# Altium integrated library Capacitor - Ceramic - Sumsung.IntLib: 1421 symbols (part 16 of 22)
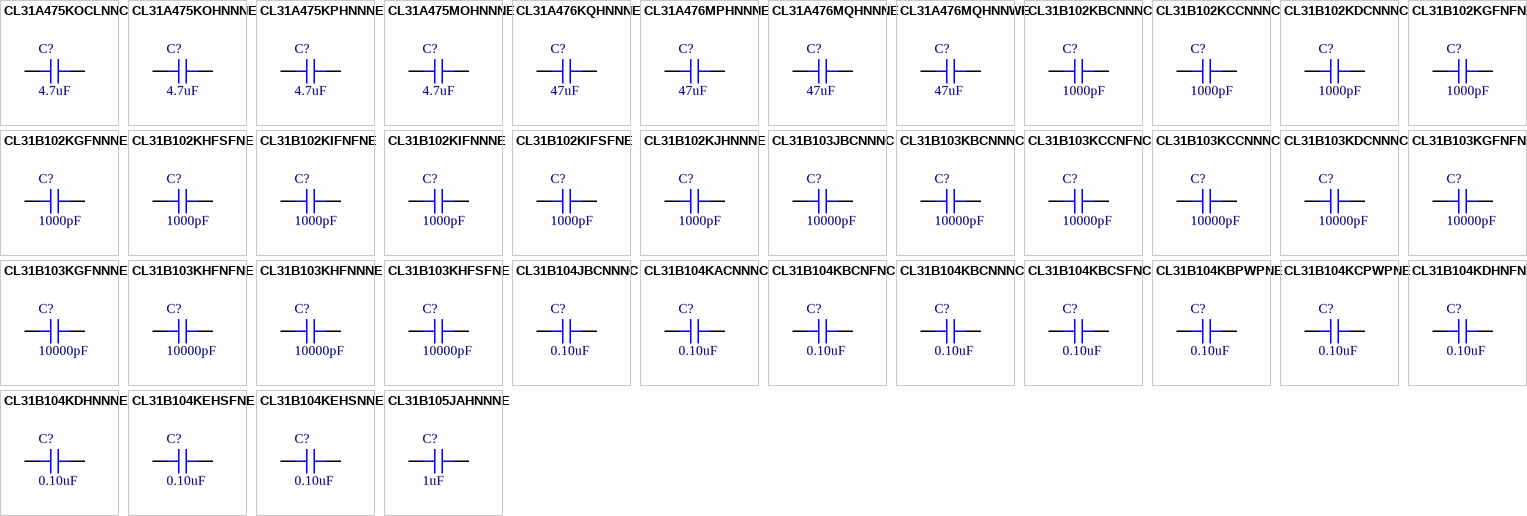
[diagram p50: symbols CL31A475KOCLNNC to CL31B105JAHNNNE]

## CL31A476MQHNNWE
designator C?, comment 47uF
CAP CER 47UF 6.3V X5R 1206; Part Number: CL31A476MQHNNWE; Manufacturer: Samsung Electro-Mechanics America, Inc.; TemperatureRange: -55C ~ 85C; Tolerance: 20%; Value: 47uF; PartId: 15984; Supplier 1: Digi-Key; Supplier Part Number 1: 1276-3064-2-ND; ComponentLink1Description: Datasheet; ComponentLink1URL: //media.digikey.com/pdf/Data%20Sheets/Samsung%20PDFs/CL31A476MQHNNWE_Spec.pdf; ComponentLink2Description: Digi-Key Listing; ComponentLink2URL: https://www.digikey.com/product-detail/en/samsung-electro-mechanics-america-inc/CL31A476MQHNNWE/1276-3064-2-ND/3888722; TemperatureCoefficient: X5R; Voltage: 6.3V; Price: 0.1643; Device Package: 1206 (3216 Metric)
footprint CAP 1206/3216
pins: 1, 2

## CL31B102KBCNNNC
designator C?, comment 1000pF
CAP CER 1000PF 50V X7R 1206; Part Number: CL31B102KBCNNNC; Manufacturer: Samsung Electro-Mechanics America, Inc.; TemperatureRange: -55C ~ 125C; Tolerance: 10%; Value: 1000pF; PartId: 16960; Supplier 1: Digi-Key; Supplier Part Number 1: 1276-1050-2-ND; ComponentLink1Description: Datasheet; ComponentLink1URL: http://www.samsungsem.com/kr/support/product-search/mlcc/__icsFiles/afieldfile/2016/08/18/S_CL31B102KBCNNNC.pdf; ComponentLink2Description: Digi-Key Listing; ComponentLink2URL: https://www.digikey.com/product-detail/en/samsung-electro-mechanics-america-inc/CL31B102KBCNNNC/1276-1050-2-ND/3886708; TemperatureCoefficient: X7R; Voltage: 50V; Price: 0.0293; Device Package: 1206 (3216 Metric)
footprint CAP 1206/3216 - 1.0MM
pins: 1, 2

## CL31B102KCCNNNC
designator C?, comment 1000pF
CAP CER 1000PF 100V X7R 1206; Part Number: CL31B102KCCNNNC; Manufacturer: Samsung Electro-Mechanics America, Inc.; TemperatureRange: -55C ~ 125C; Tolerance: 10%; Value: 1000pF; PartId: 17002; Supplier 1: Digi-Key; Supplier Part Number 1: 1276-1772-2-ND; ComponentLink1Description: Datasheet; ComponentLink1URL: http://www.samsungsem.com/kr/support/product-search/mlcc/__icsFiles/afieldfile/2016/08/18/S_CL31B102KCCNNNC.pdf; ComponentLink2Description: Digi-Key Listing; ComponentLink2URL: https://www.digikey.com/product-detail/en/samsung-electro-mechanics-america-inc/CL31B102KCCNNNC/1276-1772-2-ND/3887430; TemperatureCoefficient: X7R; Voltage: 100V; Price: 0.0441; Device Package: 1206 (3216 Metric)
footprint CAP 1206/3216 - 1.0MM
pins: 1, 2

## CL31B102KDCNNNC
designator C?, comment 1000pF
CAP CER 1000PF 200V X7R 1206; Part Number: CL31B102KDCNNNC; Manufacturer: Samsung Electro-Mechanics America, Inc.; TemperatureRange: -55C ~ 125C; Tolerance: 10%; Value: 1000pF; PartId: 15428; Supplier 1: Digi-Key; Supplier Part Number 1: 1276-2734-2-ND; ComponentLink1Description: Datasheet; ComponentLink1URL: //media.digikey.com/pdf/Data%20Sheets/Samsung%20PDFs/CL31B102KDCNNNC_Spec.pdf; ComponentLink2Description: Digi-Key Listing; ComponentLink2URL: https://www.digikey.com/product-detail/en/samsung-electro-mechanics-america-inc/CL31B102KDCNNNC/1276-2734-2-ND/3888392; TemperatureCoefficient: X7R; Voltage: 200V; Price: 0.0307; Device Package: 1206 (3216 Metric)
footprint CAP 1206/3216
pins: 1, 2

## CL31B102KGFNFNE
designator C?, comment 1000pF
CAP CER 1000PF 500V X7R 1206; Part Number: CL31B102KGFNFNE; Manufacturer: Samsung Electro-Mechanics America, Inc.; TemperatureRange: -55C ~ 125C; Tolerance: 10%; Value: 1000pF; PartId: 15403; Supplier 1: Digi-Key; Supplier Part Number 1: 1276-3065-2-ND; ComponentLink1Description: Datasheet; ComponentLink1URL: //media.digikey.com/pdf/Data%20Sheets/Samsung%20PDFs/CL31B102KGFNFNE_Spec.pdf; ComponentLink2Description: Digi-Key Listing; ComponentLink2URL: https://www.digikey.com/product-detail/en/samsung-electro-mechanics-america-inc/CL31B102KGFNFNE/1276-3065-2-ND/3888723; TemperatureCoefficient: X7R; Voltage: 500V; Price: 0.0336; Device Package: 1206 (3216 Metric)
footprint CAP 1206/3216
pins: 1, 2

## CL31B102KGFNNNE
designator C?, comment 1000pF
CAP CER 1000PF 500V X7R 1206; Part Number: CL31B102KGFNNNE; Manufacturer: Samsung Electro-Mechanics America, Inc.; TemperatureRange: -55C ~ 125C; Tolerance: 10%; Value: 1000pF; PartId: 15437; Supplier 1: Digi-Key; Supplier Part Number 1: 1276-3066-2-ND; ComponentLink1Description: Datasheet; ComponentLink1URL: //media.digikey.com/pdf/Data%20Sheets/Samsung%20PDFs/CL31B102KGFNNNE_Spec.pdf; ComponentLink2Description: Digi-Key Listing; ComponentLink2URL: https://www.digikey.com/product-detail/en/samsung-electro-mechanics-america-inc/CL31B102KGFNNNE/1276-3066-2-ND/3888724; TemperatureCoefficient: X7R; Voltage: 500V; Price: 0.0456; Device Package: 1206 (3216 Metric)
footprint CAP 1206/3216
pins: 1, 2

## CL31B102KHFSFNE
designator C?, comment 1000pF
CAP CER 1000PF 630V X7R 1206; Part Number: CL31B102KHFSFNE; Manufacturer: Samsung Electro-Mechanics America, Inc.; TemperatureRange: -55C ~ 125C; Tolerance: 10%; Value: 1000pF; PartId: 15508; Supplier 1: Digi-Key; Supplier Part Number 1: 1276-3069-2-ND; ComponentLink1Description: Datasheet; ComponentLink1URL: //media.digikey.com/pdf/Data%20Sheets/Samsung%20PDFs/CL31B102KHFSFNE_Spec.pdf; ComponentLink2Description: Digi-Key Listing; ComponentLink2URL: https://www.digikey.com/product-detail/en/samsung-electro-mechanics-america-inc/CL31B102KHFSFNE/1276-3069-2-ND/3888727; TemperatureCoefficient: X7R; Voltage: 630V; Price: 0.0336; Device Package: 1206 (3216 Metric)
footprint CAP 1206/3216
pins: 1, 2

## CL31B102KIFNFNE
designator C?, comment 1000pF
CAP CER 1000PF 1KV X7R 1206; Part Number: CL31B102KIFNFNE; Manufacturer: Samsung Electro-Mechanics America, Inc.; TemperatureRange: -55C ~ 125C; Tolerance: 10%; Voltage: 1000V (1kV); Value: 1000pF; PartId: 15465; Supplier 1: Digi-Key; Supplier Part Number 1: 1276-3070-2-ND; ComponentLink1Description: Datasheet; ComponentLink1URL: //media.digikey.com/pdf/Data%20Sheets/Samsung%20PDFs/CL31B102KIFNFNE_Spec.pdf; ComponentLink2Description: Digi-Key Listing; ComponentLink2URL: https://www.digikey.com/product-detail/en/samsung-electro-mechanics-america-inc/CL31B102KIFNFNE/1276-3070-2-ND/3888728; TemperatureCoefficient: X7R; Price: 0.0725; Device Package: 1206 (3216 Metric)
footprint CAP 1206/3216
pins: 1, 2

## CL31B102KIFNNNE
designator C?, comment 1000pF
CAP CER 1000PF 1KV X7R 1206; Part Number: CL31B102KIFNNNE; Manufacturer: Samsung Electro-Mechanics America, Inc.; TemperatureRange: -55C ~ 125C; Tolerance: 10%; Voltage: 1000V (1kV); Value: 1000pF; PartId: 15466; Supplier 1: Digi-Key; Supplier Part Number 1: 1276-3071-2-ND; ComponentLink1Description: Datasheet; ComponentLink1URL: //media.digikey.com/pdf/Data%20Sheets/Samsung%20PDFs/CL31B102KIFNNNE_Spec.pdf; ComponentLink2Description: Digi-Key Listing; ComponentLink2URL: https://www.digikey.com/product-detail/en/samsung-electro-mechanics-america-inc/CL31B102KIFNNNE/1276-3071-2-ND/3888729; TemperatureCoefficient: X7R; Price: 0.0725; Device Package: 1206 (3216 Metric)
footprint CAP 1206/3216
pins: 1, 2

## CL31B102KIFSFNE
designator C?, comment 1000pF
CAP CER 1000PF 1KV X7R 1206; Part Number: CL31B102KIFSFNE; Manufacturer: Samsung Electro-Mechanics America, Inc.; TemperatureRange: -55C ~ 125C; Tolerance: 10%; Voltage: 1000V (1kV); Value: 1000pF; PartId: 15502; Supplier 1: Digi-Key; Supplier Part Number 1: 1276-3072-2-ND; ComponentLink1Description: Datasheet; ComponentLink1URL: //media.digikey.com/pdf/Data%20Sheets/Samsung%20PDFs/CL31B102KIFSFNE_Spec.pdf; ComponentLink2Description: Digi-Key Listing; ComponentLink2URL: https://www.digikey.com/product-detail/en/samsung-electro-mechanics-america-inc/CL31B102KIFSFNE/1276-3072-2-ND/3888730; TemperatureCoefficient: X7R; Price: 0.0956; Device Package: 1206 (3216 Metric)
footprint CAP 1206/3216
pins: 1, 2

## CL31B102KJHNNNE
designator C?, comment 1000pF
CAP CER 1000PF 2KV X7R 1206; Part Number: CL31B102KJHNNNE; Manufacturer: Samsung Electro-Mechanics America, Inc.; TemperatureRange: -55C ~ 125C; Tolerance: 10%; Voltage: 2000V (2kV); Value: 1000pF; PartId: 15413; Supplier 1: Digi-Key; Supplier Part Number 1: 1276-3073-2-ND; ComponentLink1Description: Datasheet; ComponentLink1URL: //media.digikey.com/pdf/Data%20Sheets/Samsung%20PDFs/CL31B102KJHNNNE_Spec.pdf; ComponentLink2Description: Digi-Key Listing; ComponentLink2URL: https://www.digikey.com/product-detail/en/samsung-electro-mechanics-america-inc/CL31B102KJHNNNE/1276-3073-2-ND/3888731; TemperatureCoefficient: X7R; Price: 0.0675; Device Package: 1206 (3216 Metric)
footprint CAP 1206/3216
pins: 1, 2

## CL31B103JBCNNNC
designator C?, comment 10000pF
CAP CER 10000PF 50V X7R 1206; Part Number: CL31B103JBCNNNC; Manufacturer: Samsung Electro-Mechanics America, Inc.; TemperatureRange: -55C ~ 125C; Tolerance: 5%; Value: 10000pF; PartId: 17103; Supplier 1: Digi-Key; Supplier Part Number 1: 1276-2735-2-ND; ComponentLink1Description: Datasheet; ComponentLink1URL: http://www.samsungsem.com/kr/support/product-search/mlcc/__icsFiles/afieldfile/2016/08/18/S_CL31B103JBCNNNC.pdf; ComponentLink2Description: Digi-Key Listing; ComponentLink2URL: https://www.digikey.com/product-detail/en/samsung-electro-mechanics-america-inc/CL31B103JBCNNNC/1276-2735-2-ND/3888393; TemperatureCoefficient: X7R; Voltage: 50V; Price: 0.0451; Device Package: 1206 (3216 Metric)
footprint CAP 1206/3216 - 1.0MM
pins: 1, 2

## CL31B103KBCNNNC
designator C?, comment 10000pF
CAP CER 10000PF 50V X7R 1206; Part Number: CL31B103KBCNNNC; Manufacturer: Samsung Electro-Mechanics America, Inc.; TemperatureRange: -55C ~ 125C; Tolerance: 10%; Value: 10000pF; PartId: 16992; Supplier 1: Digi-Key; Supplier Part Number 1: 1276-1035-2-ND; ComponentLink1Description: Datasheet; ComponentLink1URL: http://www.samsungsem.com/kr/support/product-search/mlcc/__icsFiles/afieldfile/2016/08/18/S_CL31B103KBCNNNC.pdf; ComponentLink2Description: Digi-Key Listing; ComponentLink2URL: https://www.digikey.com/product-detail/en/samsung-electro-mechanics-america-inc/CL31B103KBCNNNC/1276-1035-2-ND/3886693; TemperatureCoefficient: X7R; Voltage: 50V; Price: 0.0249; Device Package: 1206 (3216 Metric)
footprint CAP 1206/3216 - 1.0MM
pins: 1, 2

## CL31B103KCCNFNC
designator C?, comment 10000pF
CAP CER 10000PF 100V X7R 1206; Part Number: CL31B103KCCNFNC; Manufacturer: Samsung Electro-Mechanics America, Inc.; TemperatureRange: -55C ~ 125C; Tolerance: 10%; Value: 10000pF; PartId: 17285; Supplier 1: Digi-Key; Supplier Part Number 1: 1276-2738-2-ND; ComponentLink1Description: Datasheet; ComponentLink1URL: http://www.samsungsem.com/kr/front/downloadcms.do?path=/kr/support/product-search/mlcc/__icsFiles/afieldfile/2014/11/05&fileName=C_CL31B103KCCNFNC.pdf; ComponentLink2Description: Digi-Key Listing; ComponentLink2URL: https://www.digikey.com/product-detail/en/samsung-electro-mechanics-america-inc/CL31B103KCCNFNC/1276-2738-2-ND/3888396; TemperatureCoefficient: X7R; Voltage: 100V; Price: 0.0388; Device Package: 1206 (3216 Metric)
footprint CAP 1206/3216 - 1.0MM
pins: 1, 2

## CL31B103KCCNNNC
designator C?, comment 10000pF
CAP CER 10000PF 100V X7R 1206; Part Number: CL31B103KCCNNNC; Manufacturer: Samsung Electro-Mechanics America, Inc.; TemperatureRange: -55C ~ 125C; Tolerance: 10%; Value: 10000pF; PartId: 17010; Supplier 1: Digi-Key; Supplier Part Number 1: 1276-1157-2-ND; ComponentLink1Description: Datasheet; ComponentLink1URL: http://www.samsungsem.com/kr/front/downloadcms.do?path=/kr/support/product-search/mlcc/__icsFiles/afieldfile/2014/11/05&fileName=C_CL31B103KCCNNNC.pdf; ComponentLink2Description: Digi-Key Listing; ComponentLink2URL: https://www.digikey.com/product-detail/en/samsung-electro-mechanics-america-inc/CL31B103KCCNNNC/1276-1157-2-ND/3886815; TemperatureCoefficient: X7R; Voltage: 100V; Price: 0.0388; Device Package: 1206 (3216 Metric)
footprint CAP 1206/3216 - 1.0MM
pins: 1, 2

## CL31B103KDCNNNC
designator C?, comment 10000pF
CAP CER 10000PF 200V X7R 1206; Part Number: CL31B103KDCNNNC; Manufacturer: Samsung Electro-Mechanics America, Inc.; TemperatureRange: -55C ~ 125C; Tolerance: 10%; Value: 10000pF; PartId: 17153; Supplier 1: Digi-Key; Supplier Part Number 1: 1276-2739-2-ND; ComponentLink1Description: Datasheet; ComponentLink1URL: //media.digikey.com/pdf/Data%20Sheets/Samsung%20PDFs/CL31B103KDCNNNC_Spec.pdf; ComponentLink2Description: Digi-Key Listing; ComponentLink2URL: https://www.digikey.com/product-detail/en/samsung-electro-mechanics-america-inc/CL31B103KDCNNNC/1276-2739-2-ND/3888397; TemperatureCoefficient: X7R; Voltage: 200V; Price: 0.0688; Device Package: 1206 (3216 Metric)
footprint CAP 1206/3216 - 1.0MM
pins: 1, 2

## CL31B103KGFNFNE
designator C?, comment 10000pF
CAP CER 10000PF 500V X7R 1206; Part Number: CL31B103KGFNFNE; Manufacturer: Samsung Electro-Mechanics America, Inc.; TemperatureRange: -55C ~ 125C; Tolerance: 10%; Value: 10000pF; PartId: 15446; Supplier 1: Digi-Key; Supplier Part Number 1: 1276-3075-2-ND; ComponentLink1Description: Datasheet; ComponentLink1URL: //media.digikey.com/pdf/Data%20Sheets/Samsung%20PDFs/CL31B103KGFNFNE_Spec.pdf; ComponentLink2Description: Digi-Key Listing; ComponentLink2URL: https://www.digikey.com/product-detail/en/samsung-electro-mechanics-america-inc/CL31B103KGFNFNE/1276-3075-2-ND/3888733; TemperatureCoefficient: X7R; Voltage: 500V; Price: 0.0545; Device Package: 1206 (3216 Metric)
footprint CAP 1206/3216
pins: 1, 2

## CL31B103KGFNNNE
designator C?, comment 10000pF
CAP CER 10000PF 500V X7R 1206; Part Number: CL31B103KGFNNNE; Manufacturer: Samsung Electro-Mechanics America, Inc.; TemperatureRange: -55C ~ 125C; Tolerance: 10%; Value: 10000pF; PartId: 15407; Supplier 1: Digi-Key; Supplier Part Number 1: 1276-3076-2-ND; ComponentLink1Description: Datasheet; ComponentLink1URL: //media.digikey.com/pdf/Data%20Sheets/Samsung%20PDFs/CL31B103KGFNNNE_Spec.pdf; ComponentLink2Description: Digi-Key Listing; ComponentLink2URL: https://www.digikey.com/product-detail/en/samsung-electro-mechanics-america-inc/CL31B103KGFNNNE/1276-3076-2-ND/3888734; TemperatureCoefficient: X7R; Voltage: 500V; Price: 0.0545; Device Package: 1206 (3216 Metric)
footprint CAP 1206/3216
pins: 1, 2

## CL31B103KHFNFNE
designator C?, comment 10000pF
CAP CER 10000PF 630V X7R 1206; Part Number: CL31B103KHFNFNE; Manufacturer: Samsung Electro-Mechanics America, Inc.; TemperatureRange: -55C ~ 125C; Tolerance: 10%; Value: 10000pF; PartId: 15506; Supplier 1: Digi-Key; Supplier Part Number 1: 1276-3077-2-ND; ComponentLink1Description: Datasheet; ComponentLink1URL: //media.digikey.com/pdf/Data%20Sheets/Samsung%20PDFs/CL31B103KHFNFNE_Spec.pdf; ComponentLink2Description: Digi-Key Listing; ComponentLink2URL: https://www.digikey.com/product-detail/en/samsung-electro-mechanics-america-inc/CL31B103KHFNFNE/1276-3077-2-ND/3888735; TemperatureCoefficient: X7R; Voltage: 630V; Price: 0.0507; Device Package: 1206 (3216 Metric)
footprint CAP 1206/3216
pins: 1, 2

## CL31B103KHFNNNE
designator C?, comment 10000pF
CAP CER 10000PF 630V X7R 1206; Part Number: CL31B103KHFNNNE; Manufacturer: Samsung Electro-Mechanics America, Inc.; TemperatureRange: -55C ~ 125C; Tolerance: 10%; Value: 10000pF; PartId: 15444; Supplier 1: Digi-Key; Supplier Part Number 1: 1276-3078-2-ND; ComponentLink1Description: Datasheet; ComponentLink1URL: //media.digikey.com/pdf/Data%20Sheets/Samsung%20PDFs/CL31B103KHFNNNE_Spec.pdf; ComponentLink2Description: Digi-Key Listing; ComponentLink2URL: https://www.digikey.com/product-detail/en/samsung-electro-mechanics-america-inc/CL31B103KHFNNNE/1276-3078-2-ND/3888736; TemperatureCoefficient: X7R; Voltage: 630V; Price: 0.054; Device Package: 1206 (3216 Metric)
footprint CAP 1206/3216
pins: 1, 2

## CL31B103KHFSFNE
designator C?, comment 10000pF
CAP CER 10000PF 630V X7R 1206; Part Number: CL31B103KHFSFNE; Manufacturer: Samsung Electro-Mechanics America, Inc.; TemperatureRange: -55C ~ 125C; Tolerance: 10%; Value: 10000pF; PartId: 15442; Supplier 1: Digi-Key; Supplier Part Number 1: 1276-3079-2-ND; ComponentLink1Description: Datasheet; ComponentLink1URL: //media.digikey.com/pdf/Data%20Sheets/Samsung%20PDFs/CL31B103KHFSFNE_Spec.pdf; ComponentLink2Description: Digi-Key Listing; ComponentLink2URL: https://www.digikey.com/product-detail/en/samsung-electro-mechanics-america-inc/CL31B103KHFSFNE/1276-3079-2-ND/3888737; TemperatureCoefficient: X7R; Voltage: 630V; Price: 0.054; Device Package: 1206 (3216 Metric)
footprint CAP 1206/3216
pins: 1, 2

## CL31B104JBCNNNC
designator C?, comment 0.10uF
CAP CER 0.1UF 50V X7R 1206; Part Number: CL31B104JBCNNNC; Manufacturer: Samsung Electro-Mechanics America, Inc.; TemperatureRange: -55C ~ 125C; Tolerance: 5%; Value: 0.10uF; PartId: 16969; Supplier 1: Digi-Key; Supplier Part Number 1: 1276-1165-2-ND; ComponentLink1Description: Datasheet; ComponentLink1URL: http://www.samsungsem.com/kr/support/product-search/mlcc/__icsFiles/afieldfile/2016/08/18/S_CL31B104JBCNNNC.pdf; ComponentLink2Description: Digi-Key Listing; ComponentLink2URL: https://www.digikey.com/product-detail/en/samsung-electro-mechanics-america-inc/CL31B104JBCNNNC/1276-1165-2-ND/3886823; TemperatureCoefficient: X7R; Voltage: 50V; Price: 0.0384; Device Package: 1206 (3216 Metric)
footprint CAP 1206/3216 - 1.0MM
pins: 1, 2

## CL31B104KACNNNC
designator C?, comment 0.10uF
CAP CER 0.1UF 25V X7R 1206; Part Number: CL31B104KACNNNC; Manufacturer: Samsung Electro-Mechanics America, Inc.; TemperatureRange: -55C ~ 125C; Tolerance: 10%; Value: 0.10uF; PartId: 16984; Supplier 1: Digi-Key; Supplier Part Number 1: 1276-2742-2-ND; ComponentLink1Description: Datasheet; ComponentLink1URL: http://www.samsungsem.com/kr/support/product-search/mlcc/__icsFiles/afieldfile/2016/08/18/S_CL31B104KACNNNC.pdf; ComponentLink2Description: Digi-Key Listing; ComponentLink2URL: https://www.digikey.com/product-detail/en/samsung-electro-mechanics-america-inc/CL31B104KACNNNC/1276-2742-2-ND/3888400; TemperatureCoefficient: X7R; Voltage: 25V; Price: 0.0207; Device Package: 1206 (3216 Metric)
footprint CAP 1206/3216 - 1.0MM
pins: 1, 2

## CL31B104KBCNFNC
designator C?, comment 0.10uF
CAP CER 0.1UF 50V X7R 1206; Part Number: CL31B104KBCNFNC; Manufacturer: Samsung Electro-Mechanics America, Inc.; TemperatureRange: -55C ~ 125C; Tolerance: 10%; Value: 0.10uF; PartId: 17296; Supplier 1: Digi-Key; Supplier Part Number 1: 1276-2744-2-ND; ComponentLink1Description: Datasheet; ComponentLink1URL: http://www.samsungsem.com/kr/support/product-search/mlcc/__icsFiles/afieldfile/2016/08/18/S_CL31B104KBCNFNC.pdf; ComponentLink2Description: Digi-Key Listing; ComponentLink2URL: https://www.digikey.com/product-detail/en/samsung-electro-mechanics-america-inc/CL31B104KBCNFNC/1276-2744-2-ND/3888402; TemperatureCoefficient: X7R; Voltage: 50V; Price: 0.0217; Device Package: 1206 (3216 Metric)
footprint CAP 1206/3216 - 1.0MM
pins: 1, 2

## CL31B104KBCNNNC
designator C?, comment 0.10uF
CAP CER 0.1UF 50V X7R 1206; Part Number: CL31B104KBCNNNC; Manufacturer: Samsung Electro-Mechanics America, Inc.; TemperatureRange: -55C ~ 125C; Tolerance: 10%; Value: 0.10uF; PartId: 16950; Supplier 1: Digi-Key; Supplier Part Number 1: 1276-1017-2-ND; ComponentLink1Description: Datasheet; ComponentLink1URL: http://www.samsungsem.com/kr/support/product-search/mlcc/__icsFiles/afieldfile/2016/08/18/S_CL31B104KBCNNNC.pdf; ComponentLink2Description: Digi-Key Listing; ComponentLink2URL: https://www.digikey.com/product-detail/en/samsung-electro-mechanics-america-inc/CL31B104KBCNNNC/1276-1017-2-ND/3886675; TemperatureCoefficient: X7R; Voltage: 50V; Price: 0.0207; Device Package: 1206 (3216 Metric)
footprint CAP 1206/3216 - 1.0MM
pins: 1, 2

## CL31B104KBCSFNC
designator C?, comment 0.10uF
CAP CER 0.1UF 50V X7R 1206; Part Number: CL31B104KBCSFNC; Manufacturer: Samsung Electro-Mechanics America, Inc.; TemperatureRange: -55C ~ 125C; Tolerance: 10%; Value: 0.10uF; PartId: 17293; Supplier 1: Digi-Key; Supplier Part Number 1: 1276-2745-2-ND; ComponentLink1Description: Datasheet; ComponentLink1URL: //media.digikey.com/pdf/Data%20Sheets/Samsung%20PDFs/MLCC_Catalog_2015.pdf; ComponentLink2Description: Digi-Key Listing; ComponentLink2URL: https://www.digikey.com/product-detail/en/samsung-electro-mechanics-america-inc/CL31B104KBCSFNC/1276-2745-2-ND/3888403; TemperatureCoefficient: X7R; Voltage: 50V; Price: 0.0306; Device Package: 1206 (3216 Metric)
footprint CAP 1206/3216 - 1.0MM
pins: 1, 2

## CL31B104KBPWPNE
designator C?, comment 0.10uF
CAP CER 0.1UF 50V X7R 1206; Part Number: CL31B104KBPWPNE; Manufacturer: Samsung Electro-Mechanics America, Inc.; TemperatureRange: -55C ~ 125C; Tolerance: 10%; Value: 0.10uF; PartId: 17751; Supplier 1: Digi-Key; Supplier Part Number 1: 1276-6731-2-ND; ComponentLink1Description: Datasheet; ComponentLink1URL: //media.digikey.com/pdf/Data%20Sheets/Samsung%20PDFs/MLCC_Catalog_2015.pdf; ComponentLink2Description: Digi-Key Listing; ComponentLink2URL: https://www.digikey.com/product-detail/en/samsung-electro-mechanics-america-inc/CL31B104KBPWPNE/1276-6731-2-ND/5961215; TemperatureCoefficient: X7R; Voltage: 50V; Price: 0.0975; Device Package: 1206 (3216 Metric)
footprint CAP 1206/3216 - 1.8MM
pins: 1, 2

## CL31B104KCPWPNE
designator C?, comment 0.10uF
CAP CER 0.1UF 100V X7R 1206; Part Number: CL31B104KCPWPNE; Manufacturer: Samsung Electro-Mechanics America, Inc.; TemperatureRange: -55C ~ 125C; Tolerance: 10%; Value: 0.10uF; PartId: 17765; Supplier 1: Digi-Key; Supplier Part Number 1: 1276-6634-2-ND; ComponentLink1Description: Datasheet; ComponentLink1URL: //media.digikey.com/pdf/Data%20Sheets/Samsung%20PDFs/MLCC_Catalog_2015.pdf; ComponentLink2Description: Digi-Key Listing; ComponentLink2URL: https://www.digikey.com/product-detail/en/samsung-electro-mechanics-america-inc/CL31B104KCPWPNE/1276-6634-2-ND/5961118; TemperatureCoefficient: X7R; Voltage: 100V; Price: 0.0521; Device Package: 1206 (3216 Metric)
footprint CAP 1206/3216 - 1.8MM
pins: 1, 2

## CL31B104KDHNFNE
designator C?, comment 0.10uF
CAP CER 0.1UF 200V X7R 1206; Part Number: CL31B104KDHNFNE; Manufacturer: Samsung Electro-Mechanics America, Inc.; TemperatureRange: -55C ~ 125C; Tolerance: 10%; Value: 0.10uF; PartId: 15416; Supplier 1: Digi-Key; Supplier Part Number 1: 1276-3081-2-ND; ComponentLink1Description: Datasheet; ComponentLink1URL: //media.digikey.com/pdf/Data%20Sheets/Samsung%20PDFs/CL31B104KDHNFNE_Character.pdf; ComponentLink2Description: Digi-Key Listing; ComponentLink2URL: https://www.digikey.com/product-detail/en/samsung-electro-mechanics-america-inc/CL31B104KDHNFNE/1276-3081-2-ND/3888739; TemperatureCoefficient: X7R; Voltage: 200V; Price: 0.07; Device Package: 1206 (3216 Metric)
footprint CAP 1206/3216
pins: 1, 2

## CL31B104KDHNNNE
designator C?, comment 0.10uF
CAP CER 0.1UF 200V X7R 1206; Part Number: CL31B104KDHNNNE; Manufacturer: Samsung Electro-Mechanics America, Inc.; TemperatureRange: -55C ~ 125C; Tolerance: 10%; Value: 0.10uF; PartId: 15415; Supplier 1: Digi-Key; Supplier Part Number 1: 1276-3082-2-ND; ComponentLink1Description: Datasheet; ComponentLink1URL: //media.digikey.com/pdf/Data%20Sheets/Samsung%20PDFs/CL31B104KDHNNNE_Spec.pdf; ComponentLink2Description: Digi-Key Listing; ComponentLink2URL: https://www.digikey.com/product-detail/en/samsung-electro-mechanics-america-inc/CL31B104KDHNNNE/1276-3082-2-ND/3888740; TemperatureCoefficient: X7R; Voltage: 200V; Price: 0.07; Device Package: 1206 (3216 Metric)
footprint CAP 1206/3216
pins: 1, 2

## CL31B104KEHSFNE
designator C?, comment 0.10uF
CAP CER 0.1UF 250V X7R 1206; Part Number: CL31B104KEHSFNE; Manufacturer: Samsung Electro-Mechanics America, Inc.; TemperatureRange: -55C ~ 125C; Tolerance: 10%; Value: 0.10uF; PartId: 15417; Supplier 1: Digi-Key; Supplier Part Number 1: 1276-3083-2-ND; ComponentLink1Description: Datasheet; ComponentLink1URL: //media.digikey.com/pdf/Data%20Sheets/Samsung%20PDFs/CL31B104KEHSFNE_Spec.pdf; ComponentLink2Description: Digi-Key Listing; ComponentLink2URL: https://www.digikey.com/product-detail/en/samsung-electro-mechanics-america-inc/CL31B104KEHSFNE/1276-3083-2-ND/3888741; TemperatureCoefficient: X7R; Voltage: 250V; Price: 0.07; Device Package: 1206 (3216 Metric)
footprint CAP 1206/3216
pins: 1, 2

## CL31B104KEHSNNE
designator C?, comment 0.10uF
CAP CER 0.1UF 250V X7R 1206; Part Number: CL31B104KEHSNNE; Manufacturer: Samsung Electro-Mechanics America, Inc.; TemperatureRange: -55C ~ 125C; Tolerance: 10%; Value: 0.10uF; PartId: 15414; Supplier 1: Digi-Key; Supplier Part Number 1: 1276-3084-2-ND; ComponentLink1Description: Datasheet; ComponentLink1URL: //media.digikey.com/pdf/Data%20Sheets/Samsung%20PDFs/CL31B104KEHSNNE_Spec.pdf; ComponentLink2Description: Digi-Key Listing; ComponentLink2URL: https://www.digikey.com/product-detail/en/samsung-electro-mechanics-america-inc/CL31B104KEHSNNE/1276-3084-2-ND/3888742; TemperatureCoefficient: X7R; Voltage: 250V; Price: 0.07; Device Package: 1206 (3216 Metric)
footprint CAP 1206/3216
pins: 1, 2

## CL31B105JAHNNNE
designator C?, comment 1uF
CAP CER 1UF 25V X7R 1206; Part Number: CL31B105JAHNNNE; Manufacturer: Samsung Electro-Mechanics America, Inc.; TemperatureRange: -55C ~ 125C; Tolerance: 5%; Value: 1uF; PartId: 6203; Supplier 1: Digi-Key; Supplier Part Number 1: 1276-3085-2-ND; ComponentLink1Description: Datasheet; ComponentLink1URL: http://www.samsungsem.com/kr/support/product-search/mlcc/CL31B105JAHNNNE.jsp; ComponentLink2Description: Digi-Key listing; ComponentLink2URL: http://digikey.com/product-detail/en/CL31B105JAHNNNE/1276-3085-2-ND/3888743; TemperatureCoefficient: X7R; Voltage: 25V; Price: 0.1129; Type: -; Device Package: 1206 (3216 Metric)
footprint CAP 1206/3216
pins: 1, 2

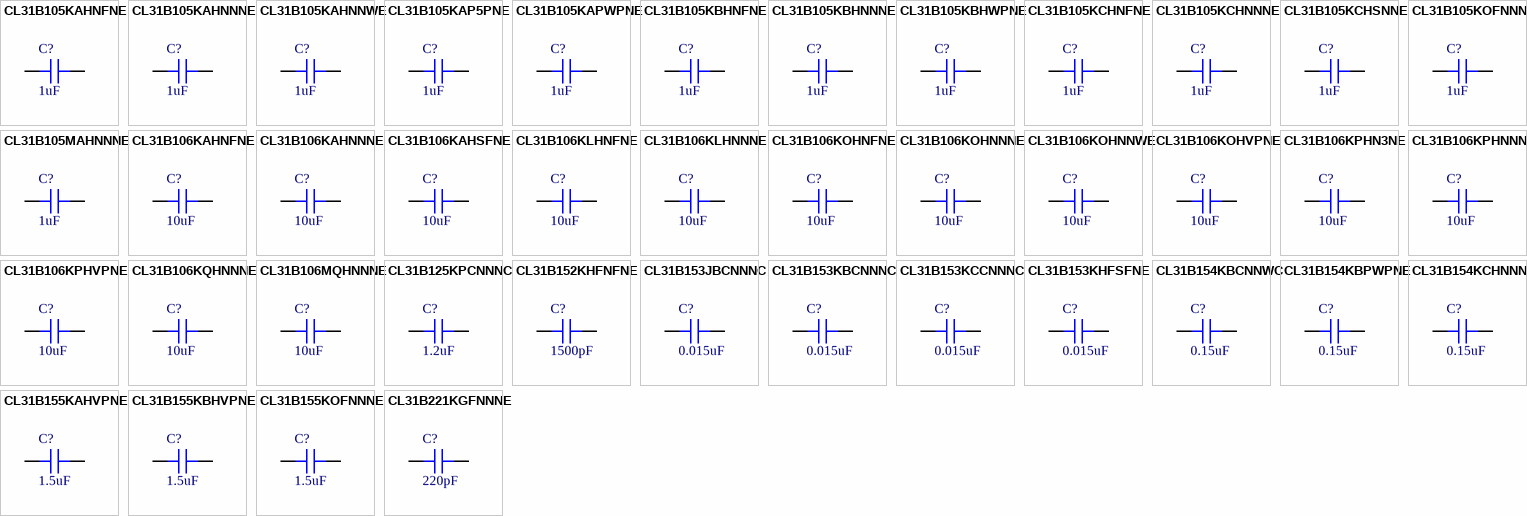
[diagram p26: symbols CL31B105KAHNFNE to CL31B221KGFNNNE]

## CL31B105KAHNFNE
designator C?, comment 1uF
CAP CER 1UF 25V X7R 1206; Part Number: CL31B105KAHNFNE; Manufacturer: Samsung Electro-Mechanics America, Inc.; TemperatureRange: -55C ~ 125C; Tolerance: 10%; Value: 1uF; PartId: 17698; Supplier 1: Digi-Key; Supplier Part Number 1: 1276-3086-2-ND; ComponentLink1Description: Datasheet; ComponentLink1URL: http://www.samsungsem.com/kr/support/product-search/mlcc/__icsFiles/afieldfile/2016/08/18/S_CL31B105KAHNFNE.pdf; ComponentLink2Description: Digi-Key Listing; ComponentLink2URL: https://www.digikey.com/product-detail/en/samsung-electro-mechanics-america-inc/CL31B105KAHNFNE/1276-3086-2-ND/3888744; TemperatureCoefficient: X7R; Voltage: 25V; Price: 0.0398; Device Package: 1206 (3216 Metric)
footprint CAP 1206/3216 - 1.8MM
pins: 1, 2

## CL31B105KAHNNNE
designator C?, comment 1uF
CAP CER 1UF 25V X7R 1206; Part Number: CL31B105KAHNNNE; Manufacturer: Samsung Electro-Mechanics America, Inc.; TemperatureRange: -55C ~ 125C; Tolerance: 10%; Value: 1uF; PartId: 17388; Supplier 1: Digi-Key; Supplier Part Number 1: 1276-1097-2-ND; ComponentLink1Description: Datasheet; ComponentLink1URL: http://www.samsungsem.com/kr/support/product-search/mlcc/__icsFiles/afieldfile/2016/08/18/S_CL31B105KAHNNNE.pdf; ComponentLink2Description: Digi-Key Listing; ComponentLink2URL: https://www.digikey.com/product-detail/en/samsung-electro-mechanics-america-inc/CL31B105KAHNNNE/1276-1097-2-ND/3886755; TemperatureCoefficient: X7R; Voltage: 25V; Price: 0.0398; Device Package: 1206 (3216 Metric)
footprint CAP 1206/3216 - 1.8MM
pins: 1, 2

## CL31B105KAHNNWE
designator C?, comment 1uF
CAP CER 1UF 25V X7R 1206; Part Number: CL31B105KAHNNWE; Manufacturer: Samsung Electro-Mechanics America, Inc.; TemperatureRange: -55C ~ 125C; Tolerance: 10%; Value: 1uF; PartId: 17700; Supplier 1: Digi-Key; Supplier Part Number 1: 1276-3087-2-ND; ComponentLink1Description: Datasheet; ComponentLink1URL: http://www.samsungsem.com/kr/support/product-search/mlcc/__icsFiles/afieldfile/2016/08/18/S_CL31B105KAHNNWE.pdf; ComponentLink2Description: Digi-Key Listing; ComponentLink2URL: https://www.digikey.com/product-detail/en/samsung-electro-mechanics-america-inc/CL31B105KAHNNWE/1276-3087-2-ND/3888745; TemperatureCoefficient: X7R; Voltage: 25V; Price: 0.0398; Device Package: 1206 (3216 Metric)
footprint CAP 1206/3216 - 1.8MM
pins: 1, 2

## CL31B105KAP5PNE
designator C?, comment 1uF
CAP CER 1UF 25V X7R 1206; Part Number: CL31B105KAP5PNE; Manufacturer: Samsung Electro-Mechanics America, Inc.; TemperatureRange: -55C ~ 125C; Tolerance: 10%; Type: Open Mode, Soft Termination; Value: 1uF; PartId: 6175; Supplier 1: Digi-Key; Supplier Part Number 1: 1276-3088-2-ND; ComponentLink1Description: Datasheet; ComponentLink1URL: http://media.digikey.com/pdf/Data%20Sheets/Samsung%20PDFs/CL31B105KAP5PNE_Spec.pdf; ComponentLink2Description: Digi-Key listing; ComponentLink2URL: http://digikey.com/product-detail/en/CL31B105KAP5PNE/1276-3088-2-ND/3888746; TemperatureCoefficient: X7R; Voltage: 25V; Price: 0.0663; Device Package: 1206 (3216 Metric)
footprint CAP 1206/3216
pins: 1, 2

## CL31B105KAPWPNE
designator C?, comment 1uF
CAP CER 1UF 25V X7R 1206; Part Number: CL31B105KAPWPNE; Manufacturer: Samsung Electro-Mechanics America, Inc.; TemperatureRange: -55C ~ 125C; Tolerance: 10%; Value: 1uF; PartId: 17756; Supplier 1: Digi-Key; Supplier Part Number 1: 1276-6712-2-ND; ComponentLink1Description: Datasheet; ComponentLink1URL: //media.digikey.com/pdf/Data%20Sheets/Samsung%20PDFs/MLCC_Catalog_2015.pdf; ComponentLink2Description: Digi-Key Listing; ComponentLink2URL: https://www.digikey.com/product-detail/en/samsung-electro-mechanics-america-inc/CL31B105KAPWPNE/1276-6712-2-ND/5961196; TemperatureCoefficient: X7R; Voltage: 25V; Price: 0.0851; Device Package: 1206 (3216 Metric)
footprint CAP 1206/3216 - 1.8MM
pins: 1, 2

## CL31B105KBHNFNE
designator C?, comment 1uF
CAP CER 1UF 50V X7R 1206; Part Number: CL31B105KBHNFNE; Manufacturer: Samsung Electro-Mechanics America, Inc.; TemperatureRange: -55C ~ 125C; Tolerance: 10%; Value: 1uF; PartId: 17699; Supplier 1: Digi-Key; Supplier Part Number 1: 1276-3091-2-ND; ComponentLink1Description: Datasheet; ComponentLink1URL: http://www.samsungsem.com/kr/support/product-search/mlcc/__icsFiles/afieldfile/2016/08/18/S_CL31B105KBHNFNE.pdf; ComponentLink2Description: Digi-Key Listing; ComponentLink2URL: https://www.digikey.com/product-detail/en/samsung-electro-mechanics-america-inc/CL31B105KBHNFNE/1276-3091-2-ND/3888749; TemperatureCoefficient: X7R; Voltage: 50V; Price: 0.0513; Device Package: 1206 (3216 Metric)
footprint CAP 1206/3216 - 1.8MM
pins: 1, 2

## CL31B105KBHNNNE
designator C?, comment 1uF
CAP CER 1UF 50V X7R 1206; Part Number: CL31B105KBHNNNE; Manufacturer: Samsung Electro-Mechanics America, Inc.; TemperatureRange: -55C ~ 125C; Tolerance: 10%; Value: 1uF; PartId: 6164; Supplier 1: Digi-Key; Supplier Part Number 1: 1276-1068-2-ND; ComponentLink1Description: Datasheet; ComponentLink1URL: http://www.samsungsem.com/kr/support/product-search/mlcc/CL31B105KBHNNNE.jsp; ComponentLink2Description: Digi-Key listing; ComponentLink2URL: http://digikey.com/product-detail/en/CL31B105KBHNNNE/1276-1068-2-ND/3886726; TemperatureCoefficient: X7R; Voltage: 50V; Price: 0.0489; Type: -; Device Package: 1206 (3216 Metric)
footprint CAP 1206/3216
pins: 1, 2

## CL31B105KBHWPNE
designator C?, comment 1uF
CAP CER 1UF 50V X7R 1206; Part Number: CL31B105KBHWPNE; Manufacturer: Samsung Electro-Mechanics America, Inc.; TemperatureRange: -55C ~ 125C; Tolerance: 10%; Value: 1uF; PartId: 17749; Supplier 1: Digi-Key; Supplier Part Number 1: 1276-6737-2-ND; ComponentLink1Description: Datasheet; ComponentLink1URL: //media.digikey.com/pdf/Data%20Sheets/Samsung%20PDFs/MLCC_Catalog_2015.pdf; ComponentLink2Description: Digi-Key Listing; ComponentLink2URL: https://www.digikey.com/product-detail/en/samsung-electro-mechanics-america-inc/CL31B105KBHWPNE/1276-6737-2-ND/5961221; TemperatureCoefficient: X7R; Voltage: 50V; Price: 0.1068; Device Package: 1206 (3216 Metric)
footprint CAP 1206/3216 - 1.8MM
pins: 1, 2

## CL31B105KCHNFNE
designator C?, comment 1uF
CAP CER 1UF 100V X7R 1206; Part Number: CL31B105KCHNFNE; Manufacturer: Samsung Electro-Mechanics America, Inc.; TemperatureRange: -55C ~ 125C; Tolerance: 10%; Value: 1uF; PartId: 17949; Supplier 1: Digi-Key; Supplier Part Number 1: 1276-3094-2-ND; ComponentLink1Description: Datasheet; ComponentLink1URL: //media.digikey.com/pdf/Data%20Sheets/Samsung%20PDFs/CL31B105KCHNFNE_Spec.pdf; ComponentLink2Description: Digi-Key Listing; ComponentLink2URL: https://www.digikey.com/product-detail/en/samsung-electro-mechanics-america-inc/CL31B105KCHNFNE/1276-3094-2-ND/3888752; TemperatureCoefficient: X7R; Voltage: 100V; Price: 0.1218; Device Package: 1206 (3216 Metric)
footprint CAP 1206/3216 - 1.8MM
pins: 1, 2

## CL31B105KCHNNNE
designator C?, comment 1uF
CAP CER 1UF 100V X7R 1206; Part Number: CL31B105KCHNNNE; Manufacturer: Samsung Electro-Mechanics America, Inc.; TemperatureRange: -55C ~ 125C; Tolerance: 10%; Value: 1uF; PartId: 6198; Supplier 1: Digi-Key; Supplier Part Number 1: 1276-1838-2-ND; ComponentLink1Description: Datasheet; ComponentLink1URL: http://www.samsungsem.com/kr/support/product-search/mlcc/CL31B105KCHNNNE.jsp; ComponentLink2Description: Digi-Key listing; ComponentLink2URL: http://digikey.com/product-detail/en/CL31B105KCHNNNE/1276-1838-2-ND/3887496; TemperatureCoefficient: X7R; Voltage: 100V; Price: 0.1037; Type: -; Device Package: 1206 (3216 Metric)
footprint CAP 1206/3216
pins: 1, 2

## CL31B105KCHSNNE
designator C?, comment 1uF
CAP CER 1UF 100V X7R 1206; Part Number: CL31B105KCHSNNE; Manufacturer: Samsung Electro-Mechanics America, Inc.; TemperatureRange: -55C ~ 125C; Tolerance: 10%; Value: 1uF; PartId: 17470; Supplier 1: Digi-Key; Supplier Part Number 1: 1276-2747-2-ND; ComponentLink1Description: Datasheet; ComponentLink1URL: //media.digikey.com/pdf/Data%20Sheets/Samsung%20PDFs/CL31B105KCHSNNE_Spec.pdf; ComponentLink2Description: Digi-Key Listing; ComponentLink2URL: https://www.digikey.com/product-detail/en/samsung-electro-mechanics-america-inc/CL31B105KCHSNNE/1276-2747-2-ND/3888405; TemperatureCoefficient: X7R; Voltage: 100V; Price: 0.1218; Device Package: 1206 (3216 Metric)
footprint CAP 1206/3216 - 1.8MM
pins: 1, 2

## CL31B105KOFNNNE
designator C?, comment 1uF
CAP CER 1UF 16V X7R 1206; Part Number: CL31B105KOFNNNE; Manufacturer: Samsung Electro-Mechanics America, Inc.; TemperatureRange: -55C ~ 125C; Tolerance: 10%; Value: 1uF; PartId: 6162; Supplier 1: Digi-Key; Supplier Part Number 1: 1276-1783-2-ND; ComponentLink1Description: Datasheet; ComponentLink1URL: http://www.samsungsem.com/kr/support/product-search/mlcc/CL31B105KOFNNNE.jsp; ComponentLink2Description: Digi-Key listing; ComponentLink2URL: http://digikey.com/product-detail/en/CL31B105KOFNNNE/1276-1783-2-ND/3887441; TemperatureCoefficient: X7R; Voltage: 16V; Price: 0.038; Type: -; Device Package: 1206 (3216 Metric)
footprint CAP 1206/3216
pins: 1, 2

## CL31B105MAHNNNE
designator C?, comment 1uF
CAP CER 1UF 25V X7R 1206; Part Number: CL31B105MAHNNNE; Manufacturer: Samsung Electro-Mechanics America, Inc.; TemperatureRange: -55C ~ 125C; Tolerance: 20%; Value: 1uF; PartId: 17578; Supplier 1: Digi-Key; Supplier Part Number 1: 1276-3098-2-ND; ComponentLink1Description: Datasheet; ComponentLink1URL: http://www.samsungsem.com/kr/support/product-search/mlcc/__icsFiles/afieldfile/2016/08/18/S_CL31B105MAHNNNE.pdf; ComponentLink2Description: Digi-Key Listing; ComponentLink2URL: https://www.digikey.com/product-detail/en/samsung-electro-mechanics-america-inc/CL31B105MAHNNNE/1276-3098-2-ND/3888756; TemperatureCoefficient: X7R; Voltage: 25V; Price: 0.0396; Device Package: 1206 (3216 Metric)
footprint CAP 1206/3216 - 1.8MM
pins: 1, 2

## CL31B106KAHNFNE
designator C?, comment 10uF
CAP CER 10UF 25V X7R 1206; Part Number: CL31B106KAHNFNE; Manufacturer: Samsung Electro-Mechanics America, Inc.; TemperatureRange: -55C ~ 125C; Tolerance: 10%; Value: 10uF; PartId: 15883; Supplier 1: Digi-Key; Supplier Part Number 1: 1276-3100-2-ND; ComponentLink1Description: Datasheet; ComponentLink1URL: http://www.samsungsem.com/kr/support/product-search/mlcc/CL31B106KAHNFNE.jsp; ComponentLink2Description: Digi-Key Listing; ComponentLink2URL: https://www.digikey.com/product-detail/en/samsung-electro-mechanics-america-inc/CL31B106KAHNFNE/1276-3100-2-ND/3888758; TemperatureCoefficient: X7R; Voltage: 25V; Price: 0.0976; Device Package: 1206 (3216 Metric)
footprint CAP 1206/3216
pins: 1, 2

## CL31B106KAHNNNE
designator C?, comment 10uF
CAP CER 10UF 25V X7R 1206; Part Number: CL31B106KAHNNNE; Manufacturer: Samsung Electro-Mechanics America, Inc.; TemperatureRange: -55C ~ 125C; Tolerance: 10%; Value: 10uF; PartId: 15760; Supplier 1: Digi-Key; Supplier Part Number 1: 1276-1804-2-ND; ComponentLink1Description: Datasheet; ComponentLink1URL: http://www.samsungsem.com/kr/support/product-search/mlcc/CL31B106KAHNNNE.jsp; ComponentLink2Description: Digi-Key Listing; ComponentLink2URL: https://www.digikey.com/product-detail/en/samsung-electro-mechanics-america-inc/CL31B106KAHNNNE/1276-1804-2-ND/3887462; TemperatureCoefficient: X7R; Voltage: 25V; Price: 0.0976; Device Package: 1206 (3216 Metric)
footprint CAP 1206/3216
pins: 1, 2

## CL31B106KAHSFNE
designator C?, comment 10uF
CAP CER 10UF 25V X7R 1206; Part Number: CL31B106KAHSFNE; Manufacturer: Samsung Electro-Mechanics America, Inc.; TemperatureRange: -55C ~ 125C; Tolerance: 10%; Value: 10uF; PartId: 17742; Supplier 1: Digi-Key; Supplier Part Number 1: 1276-3101-2-ND; ComponentLink1Description: Datasheet; ComponentLink1URL: http://www.samsungsem.com/kr/support/product-search/mlcc/__icsFiles/afieldfile/2016/08/18/S_CL31B106KAHSFNE.pdf; ComponentLink2Description: Digi-Key Listing; ComponentLink2URL: https://www.digikey.com/product-detail/en/samsung-electro-mechanics-america-inc/CL31B106KAHSFNE/1276-3101-2-ND/3888759; TemperatureCoefficient: X7R; Voltage: 25V; Price: 0.1205; Device Package: 1206 (3216 Metric)
footprint CAP 1206/3216 - 1.8MM
pins: 1, 2

## CL31B106KLHNFNE
designator C?, comment 10uF
CAP CER 10UF 35V X7R 1206; Part Number: CL31B106KLHNFNE; Manufacturer: Samsung Electro-Mechanics America, Inc.; TemperatureRange: -55C ~ 125C; Tolerance: 10%; Value: 10uF; PartId: 16006; Supplier 1: Digi-Key; Supplier Part Number 1: 1276-3102-2-ND; ComponentLink1Description: Datasheet; ComponentLink1URL: http://www.samsungsem.com/kr/support/product-search/mlcc/CL31B106KLHNFNE.jsp; ComponentLink2Description: Digi-Key Listing; ComponentLink2URL: https://www.digikey.com/product-detail/en/samsung-electro-mechanics-america-inc/CL31B106KLHNFNE/1276-3102-2-ND/3888760; TemperatureCoefficient: X7R; Voltage: 35V; Price: 0.3179; Device Package: 1206 (3216 Metric)
footprint CAP 1206/3216
pins: 1, 2

## CL31B106KLHNNNE
designator C?, comment 10uF
CAP CER 10UF 35V X7R 1206; Part Number: CL31B106KLHNNNE; Manufacturer: Samsung Electro-Mechanics America, Inc.; TemperatureRange: -55C ~ 125C; Tolerance: 10%; Value: 10uF; PartId: 15817; Supplier 1: Digi-Key; Supplier Part Number 1: 1276-3103-2-ND; ComponentLink1Description: Datasheet; ComponentLink1URL: http://www.samsungsem.com/kr/support/product-search/mlcc/CL31B106KLHNNNE.jsp; ComponentLink2Description: Digi-Key Listing; ComponentLink2URL: https://www.digikey.com/product-detail/en/samsung-electro-mechanics-america-inc/CL31B106KLHNNNE/1276-3103-2-ND/3888761; TemperatureCoefficient: X7R; Voltage: 35V; Price: 0.2759; Device Package: 1206 (3216 Metric)
footprint CAP 1206/3216
pins: 1, 2

## CL31B106KOHNFNE
designator C?, comment 10uF
CAP CER 10UF 16V X7R 1206; Part Number: CL31B106KOHNFNE; Manufacturer: Samsung Electro-Mechanics America, Inc.; TemperatureRange: -55C ~ 125C; Tolerance: 10%; Value: 10uF; PartId: 15962; Supplier 1: Digi-Key; Supplier Part Number 1: 1276-3104-2-ND; ComponentLink1Description: Datasheet; ComponentLink1URL: http://www.samsungsem.com/kr/support/product-search/mlcc/CL31B106KOHNFNE.jsp; ComponentLink2Description: Digi-Key Listing; ComponentLink2URL: https://www.digikey.com/product-detail/en/samsung-electro-mechanics-america-inc/CL31B106KOHNFNE/1276-3104-2-ND/3888762; TemperatureCoefficient: X7R; Voltage: 16V; Price: 0.094; Device Package: 1206 (3216 Metric)
footprint CAP 1206/3216
pins: 1, 2

## CL31B106KOHNNNE
designator C?, comment 10uF
CAP CER 10UF 16V X7R 1206; Part Number: CL31B106KOHNNNE; Manufacturer: Samsung Electro-Mechanics America, Inc.; TemperatureRange: -55C ~ 125C; Tolerance: 10%; Value: 10uF; PartId: 15879; Supplier 1: Digi-Key; Supplier Part Number 1: 1276-1082-2-ND; ComponentLink1Description: Datasheet; ComponentLink1URL: http://www.samsungsem.com/kr/support/product-search/mlcc/CL31B106KOHNNNE.jsp; ComponentLink2Description: Digi-Key Listing; ComponentLink2URL: https://www.digikey.com/product-detail/en/samsung-electro-mechanics-america-inc/CL31B106KOHNNNE/1276-1082-2-ND/3886740; TemperatureCoefficient: X7R; Voltage: 16V; Price: 0.094; Device Package: 1206 (3216 Metric)
footprint CAP 1206/3216
pins: 1, 2

## CL31B106KOHNNWE
designator C?, comment 10uF
CAP CER 10UF 16V X7R 1206; Part Number: CL31B106KOHNNWE; Manufacturer: Samsung Electro-Mechanics America, Inc.; TemperatureRange: -55C ~ 125C; Tolerance: 10%; Value: 10uF; PartId: 17430; Supplier 1: Digi-Key; Supplier Part Number 1: 1276-3105-2-ND; ComponentLink1Description: Datasheet; ComponentLink1URL: http://www.samsungsem.com/kr/support/product-search/mlcc/__icsFiles/afieldfile/2016/08/18/S_CL31B106KOHNNWE.pdf; ComponentLink2Description: Digi-Key Listing; ComponentLink2URL: https://www.digikey.com/product-detail/en/samsung-electro-mechanics-america-inc/CL31B106KOHNNWE/1276-3105-2-ND/3888763; TemperatureCoefficient: X7R; Voltage: 16V; Price: 0.1014; Device Package: 1206 (3216 Metric)
footprint CAP 1206/3216 - 1.8MM
pins: 1, 2

## CL31B106KOHVPNE
designator C?, comment 10uF
CAP CER 10UF 16V X7R 1206; Part Number: CL31B106KOHVPNE; Manufacturer: Samsung Electro-Mechanics America, Inc.; TemperatureRange: -55C ~ 125C; Tolerance: 10%; Value: 10uF; PartId: 17722; Supplier 1: Digi-Key; Supplier Part Number 1: 1276-6797-2-ND; ComponentLink1Description: Datasheet; ComponentLink1URL: //media.digikey.com/pdf/Data%20Sheets/Samsung%20PDFs/MLCC_Catalog_2015.pdf; ComponentLink2Description: Digi-Key Listing; ComponentLink2URL: https://www.digikey.com/product-detail/en/samsung-electro-mechanics-america-inc/CL31B106KOHVPNE/1276-6797-2-ND/5961281; TemperatureCoefficient: X7R; Voltage: 16V; Price: 0.1638; Device Package: 1206 (3216 Metric)
footprint CAP 1206/3216 - 1.8MM
pins: 1, 2

## CL31B106KPHN3NE
designator C?, comment 10uF
CAP CER 10UF 10V X7R 1206; Part Number: CL31B106KPHN3NE; Manufacturer: Samsung Electro-Mechanics America, Inc.; TemperatureRange: -55C ~ 125C; Tolerance: 10%; Value: 10uF; PartId: 15956; Supplier 1: Digi-Key; Supplier Part Number 1: 1276-3106-2-ND; ComponentLink1Description: Datasheet; ComponentLink1URL: //media.digikey.com/pdf/Data%20Sheets/Samsung%20PDFs/CL31B106KPHN3NE_Spec.pdf; ComponentLink2Description: Digi-Key Listing; ComponentLink2URL: https://www.digikey.com/product-detail/en/samsung-electro-mechanics-america-inc/CL31B106KPHN3NE/1276-3106-2-ND/3888764; TemperatureCoefficient: X7R; Voltage: 10V; Price: 0.0736; Device Package: 1206 (3216 Metric)
footprint CAP 1206/3216
pins: 1, 2

## CL31B106KPHNNNE
designator C?, comment 10uF
CAP CER 10UF 10V X7R 1206; Part Number: CL31B106KPHNNNE; Manufacturer: Samsung Electro-Mechanics America, Inc.; TemperatureRange: -55C ~ 125C; Tolerance: 10%; Value: 10uF; PartId: 15868; Supplier 1: Digi-Key; Supplier Part Number 1: 1276-1311-2-ND; ComponentLink1Description: Datasheet; ComponentLink1URL: http://www.samsungsem.com/kr/front/downloadcms.do?path=/kr/support/product-search/mlcc/__icsFiles/afieldfile/2014/11/05&fileName=C_CL31B106KPHNNNE.pdf; ComponentLink2Description: Digi-Key Listing; ComponentLink2URL: https://www.digikey.com/product-detail/en/samsung-electro-mechanics-america-inc/CL31B106KPHNNNE/1276-1311-2-ND/3886969; TemperatureCoefficient: X7R; Voltage: 10V; Price: 0.0736; Device Package: 1206 (3216 Metric)
footprint CAP 1206/3216
pins: 1, 2

## CL31B106KPHVPNE
designator C?, comment 10uF
CAP CER 10UF 10V X7R 1206; Part Number: CL31B106KPHVPNE; Manufacturer: Samsung Electro-Mechanics America, Inc.; TemperatureRange: -55C ~ 125C; Tolerance: 10%; Value: 10uF; PartId: 17509; Supplier 1: Digi-Key; Supplier Part Number 1: 1276-6792-2-ND; ComponentLink1Description: Datasheet; ComponentLink1URL: //media.digikey.com/pdf/Data%20Sheets/Samsung%20PDFs/MLCC_Catalog_2015.pdf; ComponentLink2Description: Digi-Key Listing; ComponentLink2URL: https://www.digikey.com/product-detail/en/samsung-electro-mechanics-america-inc/CL31B106KPHVPNE/1276-6792-2-ND/5961276; TemperatureCoefficient: X7R; Voltage: 10V; Price: 0.0908; Device Package: 1206 (3216 Metric)
footprint CAP 1206/3216 - 1.8MM
pins: 1, 2

## CL31B106KQHNNNE
designator C?, comment 10uF
CAP CER 10UF 6.3V X7R 1206; Part Number: CL31B106KQHNNNE; Manufacturer: Samsung Electro-Mechanics America, Inc.; TemperatureRange: -55C ~ 125C; Tolerance: 10%; Value: 10uF; PartId: 6181; Supplier 1: Digi-Key; Supplier Part Number 1: 1276-2748-2-ND; ComponentLink1Description: Datasheet; ComponentLink1URL: http://media.digikey.com/pdf/Data%20Sheets/Samsung%20PDFs/CL31B106KQHNNNE_Spec.pdf; ComponentLink2Description: Digi-Key listing; ComponentLink2URL: http://digikey.com/product-detail/en/CL31B106KQHNNNE/1276-2748-2-ND/3888406; TemperatureCoefficient: X7R; Voltage: 6.3V; Price: 0.0757; Type: -; Device Package: 1206 (3216 Metric)
footprint CAP 1206/3216
pins: 1, 2

## CL31B106MQHNNNE
designator C?, comment 10uF
CAP CER 10UF 6.3V X7R 1206; Part Number: CL31B106MQHNNNE; Manufacturer: Samsung Electro-Mechanics America, Inc.; TemperatureRange: -55C ~ 125C; Tolerance: 20%; Value: 10uF; PartId: 6182; Supplier 1: Digi-Key; Supplier Part Number 1: 1276-3108-2-ND; ComponentLink1Description: Datasheet; ComponentLink1URL: http://media.digikey.com/pdf/Data%20Sheets/Samsung%20PDFs/CL31B106MQHNNNE_Spec.pdf; ComponentLink2Description: Digi-Key listing; ComponentLink2URL: http://digikey.com/product-detail/en/CL31B106MQHNNNE/1276-3108-2-ND/3888766; TemperatureCoefficient: X7R; Voltage: 6.3V; Price: 0.0757; Type: -; Device Package: 1206 (3216 Metric)
footprint CAP 1206/3216
pins: 1, 2

## CL31B125KPCNNNC
designator C?, comment 1.2uF
CAP CER 1.2UF 10V X7R 1206; Part Number: CL31B125KPCNNNC; Manufacturer: Samsung Electro-Mechanics America, Inc.; TemperatureRange: -55C ~ 125C; Tolerance: 10%; Value: 1.2uF; PartId: 6183; Supplier 1: Digi-Key; Supplier Part Number 1: 1276-2752-2-ND; ComponentLink1Description: Datasheet; ComponentLink1URL: http://www.samsungsem.com/kr/support/product-search/mlcc/CL31B125KPCNNNC.jsp; ComponentLink2Description: Digi-Key listing; ComponentLink2URL: http://digikey.com/product-detail/en/CL31B125KPCNNNC/1276-2752-2-ND/3888410; TemperatureCoefficient: X7R; Voltage: 10V; Price: 0.0849; Type: -; Device Package: 1206 (3216 Metric)
footprint CAP 1206/3216
pins: 1, 2

## CL31B152KHFNFNE
designator C?, comment 1500pF
CAP CER 1500PF 630V X7R 1206; Part Number: CL31B152KHFNFNE; Manufacturer: Samsung Electro-Mechanics America, Inc.; TemperatureRange: -55C ~ 125C; Tolerance: 10%; Value: 1500pF; PartId: 15511; Supplier 1: Digi-Key; Supplier Part Number 1: 1276-3110-2-ND; ComponentLink1Description: Datasheet; ComponentLink1URL: http://www.samsungsem.com/kr/support/library/product-catalog/__icsFiles/afieldfile/2015/11/18/MLCC.pdf; ComponentLink2Description: Digi-Key Listing; ComponentLink2URL: https://www.digikey.com/product-detail/en/samsung-electro-mechanics-america-inc/CL31B152KHFNFNE/1276-3110-2-ND/3888768; TemperatureCoefficient: X7R; Voltage: 630V; Price: 0.0379; Device Package: 1206 (3216 Metric)
footprint CAP 1206/3216
pins: 1, 2

## CL31B153JBCNNNC
designator C?, comment 0.015uF
CAP CER 0.015UF 50V X7R 1206; Part Number: CL31B153JBCNNNC; Manufacturer: Samsung Electro-Mechanics America, Inc.; TemperatureRange: -55C ~ 125C; Tolerance: 5%; Value: 0.015uF; PartId: 17273; Supplier 1: Digi-Key; Supplier Part Number 1: 1276-2754-2-ND; ComponentLink1Description: Datasheet; ComponentLink1URL: http://www.samsungsem.com/kr/support/product-search/mlcc/__icsFiles/afieldfile/2016/08/18/S_CL31B153JBCNNNC.pdf; ComponentLink2Description: Digi-Key Listing; ComponentLink2URL: https://www.digikey.com/product-detail/en/samsung-electro-mechanics-america-inc/CL31B153JBCNNNC/1276-2754-2-ND/3888412; TemperatureCoefficient: X7R; Voltage: 50V; Price: 0.0198; Device Package: 1206 (3216 Metric)
footprint CAP 1206/3216 - 1.0MM
pins: 1, 2

## CL31B153KBCNNNC
designator C?, comment 0.015uF
CAP CER 0.015UF 50V X7R 1206; Part Number: CL31B153KBCNNNC; Manufacturer: Samsung Electro-Mechanics America, Inc.; TemperatureRange: -55C ~ 125C; Tolerance: 10%; Value: 0.015uF; PartId: 17159; Supplier 1: Digi-Key; Supplier Part Number 1: 1276-1773-2-ND; ComponentLink1Description: Datasheet; ComponentLink1URL: http://www.samsungsem.com/kr/support/product-search/mlcc/__icsFiles/afieldfile/2016/08/18/S_CL31B153KBCNNNC.pdf; ComponentLink2Description: Digi-Key Listing; ComponentLink2URL: https://www.digikey.com/product-detail/en/samsung-electro-mechanics-america-inc/CL31B153KBCNNNC/1276-1773-2-ND/3887431; TemperatureCoefficient: X7R; Voltage: 50V; Price: 0.0325; Device Package: 1206 (3216 Metric)
footprint CAP 1206/3216 - 1.0MM
pins: 1, 2

## CL31B153KCCNNNC
designator C?, comment 0.015uF
CAP CER 0.015UF 100V X7R 1206; Part Number: CL31B153KCCNNNC; Manufacturer: Samsung Electro-Mechanics America, Inc.; TemperatureRange: -55C ~ 125C; Tolerance: 10%; Value: 0.015uF; PartId: 17275; Supplier 1: Digi-Key; Supplier Part Number 1: 1276-2755-2-ND; ComponentLink1Description: Datasheet; ComponentLink1URL: http://www.samsungsem.com/kr/support/product-search/mlcc/__icsFiles/afieldfile/2016/08/18/S_CL31B153KCCNNNC.pdf; ComponentLink2Description: Digi-Key Listing; ComponentLink2URL: https://www.digikey.com/product-detail/en/samsung-electro-mechanics-america-inc/CL31B153KCCNNNC/1276-2755-2-ND/3888413; TemperatureCoefficient: X7R; Voltage: 100V; Price: 0.0279; Device Package: 1206 (3216 Metric)
footprint CAP 1206/3216 - 1.0MM
pins: 1, 2